# EAGLE library part ADS1262 (library ADS1262)
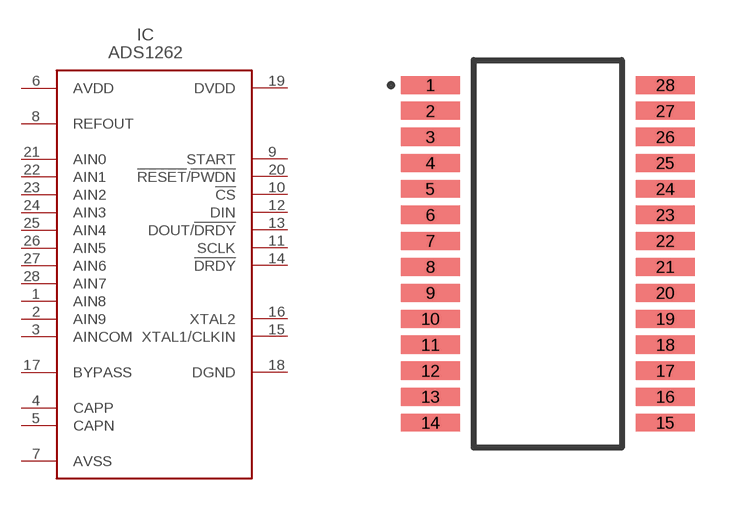
[diagram p0: symbol with the pads of SOP65P640X120-28N; footprint SOP65P640X120-28N]

Designator prefix IC

## ADS1262  [SOP65P640X120-28N]
1  AIN8
2  AIN9
3  AINCOM
4  CAPP
5  CAPN
6  AVDD
7  AVSS
8  REFOUT
9  START
10  !CS
11  SCLK
12  DIN
13  DOUT/!DRDY
14  !DRDY
15  XTAL1/CLKIN
16  XTAL2
17  BYPASS
18  DGND
19  DVDD
20  !RESET!/!PWDN
21  AIN0
22  AIN1
23  AIN2
24  AIN3
25  AIN4
26  AIN5
27  AIN6
28  AIN7

## Footprint SOP65P640X120-28N (pad centres in mm)
smd 1.475 x 0.45: 1 -2.938,4.225; 2 -2.938,3.575; 3 -2.938,2.925; 4 -2.938,2.275; 5 -2.938,1.625; 6 -2.938,0.975; 7 -2.938,0.325; 8 -2.938,-0.325; 9 -2.938,-0.975; 10 -2.938,-1.625; 11 -2.938,-2.275; 12 -2.938,-2.925; 13 -2.938,-3.575; 14 -2.938,-4.225; 15 2.938,-4.225; 16 2.938,-3.575; 17 2.938,-2.925; 18 2.938,-2.275; 19 2.938,-1.625; 20 2.938,-0.975; 21 2.938,-0.325; 22 2.938,0.325; 23 2.938,0.975; 24 2.938,1.625; 25 2.938,2.275; 26 2.938,2.925; 27 2.938,3.575; 28 2.938,4.225